# Altium schematic symbol library IC-MEMORY.SchLib: 15 symbols
Pins are listed as number, name and electrical type; pins without a type are passive.

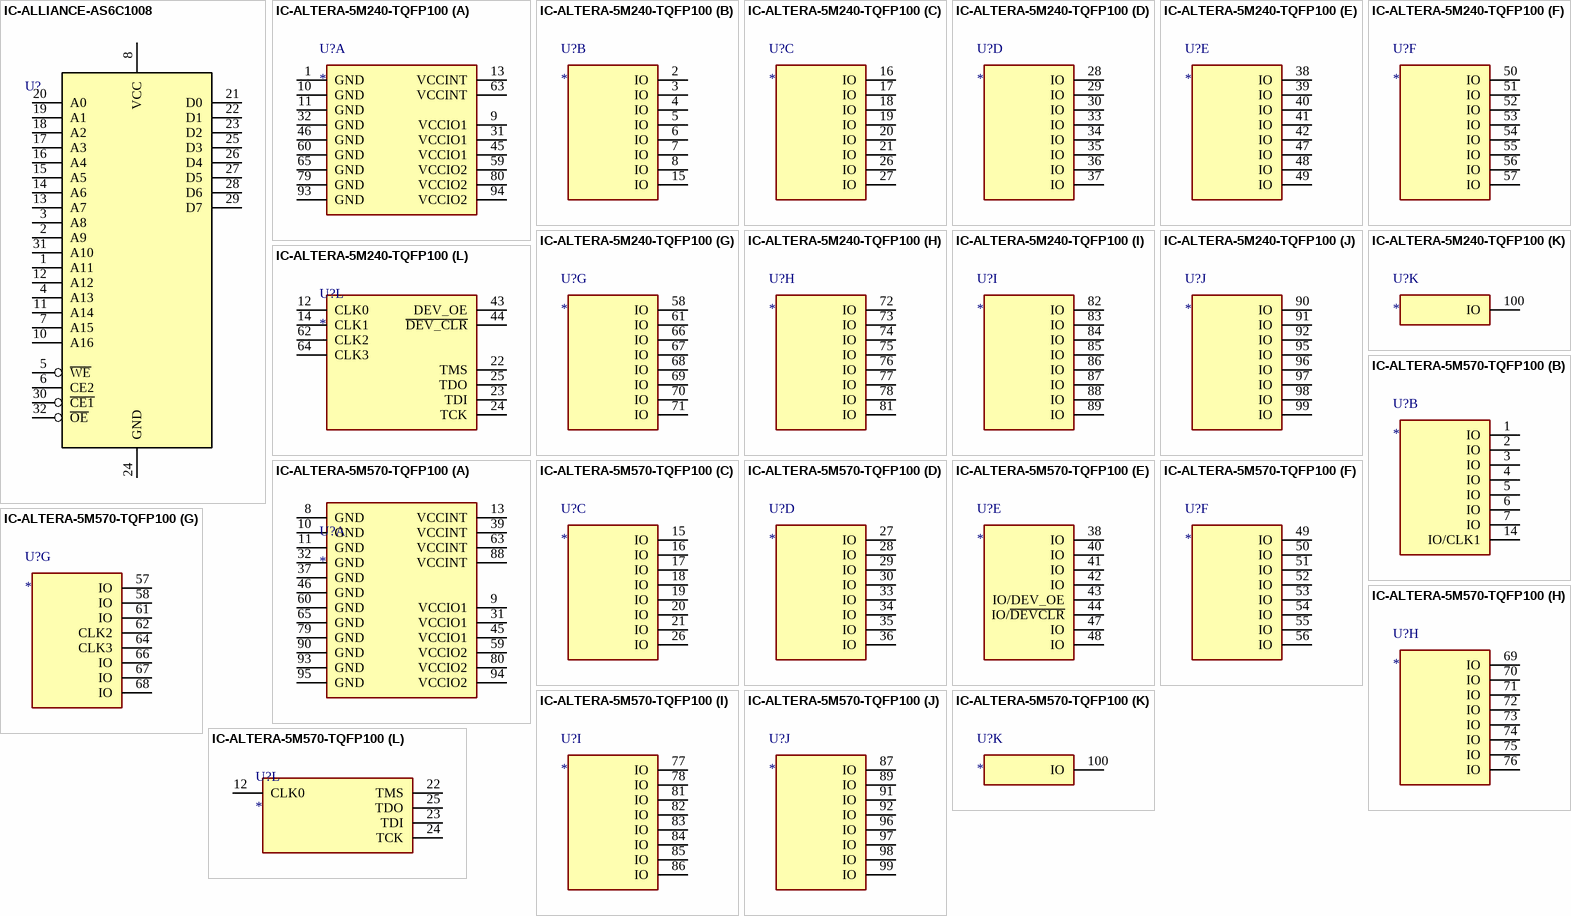
[diagram p0: symbols IC-ALLIANCE-AS6C1008 to IC-ALTERA-5M570-TQFP100]

## IC-ALLIANCE-AS6C1008
designator U?  (value not drawn)
pins: 1 A11, 2 A9, 3 A8, 4 A13, 5 ~{WE} (power), 6 CE2 (power), 7 A15, 8 VCC (power), 10 A16, 11 A14, 12 A12, 13 A7, 14 A6, 15 A5, 16 A4, 17 A3, 18 A2, 19 A1, 20 A0, 21 D0 (power), 22 D1 (power), 23 D2 (power), 24 GND (power), 25 D3 (power), 26 D4 (power), 27 D5 (power), 28 D6 (power), 29 D7 (power), 30 ~{CE1} (power), 31 A10, 32 ~{OE} (power)

## IC-ALTERA-5M240-TQFP100
designator U?
IC,LOGIC,CPLD,ALTERA,5M240-TQFP100; Manufacturer 1: Intel/Altera; Manufacturer Part Number 1: 5M240ZT100C5N; LCSC: C192889
footprint QFP50P1600X1600X160-100N (QFP50P1600X1600X160 100N)
part A pins: 1 GND, 9 VCCIO1, 10 GND, 11 GND, 13 VCCINT, 31 VCCIO1, 32 GND, 45 VCCIO1, 46 GND, 59 VCCIO2, 60 GND, 63 VCCINT, 65 GND, 79 GND, 80 VCCIO2, 93 GND, 94 VCCIO2
part B pins: 2 IO, 3 IO, 4 IO, 5 IO, 6 IO, 7 IO, 8 IO, 15 IO
part C pins: 16 IO, 17 IO, 18 IO, 19 IO, 20 IO, 21 IO, 26 IO, 27 IO
part D pins: 28 IO, 29 IO, 30 IO, 33 IO, 34 IO, 35 IO, 36 IO, 37 IO
part E pins: 38 IO, 39 IO, 40 IO, 41 IO, 42 IO, 47 IO, 48 IO, 49 IO
part F pins: 50 IO, 51 IO, 52 IO, 53 IO, 54 IO, 55 IO, 56 IO, 57 IO
part G pins: 58 IO, 61 IO, 66 IO, 67 IO, 68 IO, 69 IO, 70 IO, 71 IO
part H pins: 72 IO, 73 IO, 74 IO, 75 IO, 76 IO, 77 IO, 78 IO, 81 IO
part I pins: 82 IO, 83 IO, 84 IO, 85 IO, 86 IO, 87 IO, 88 IO, 89 IO
part J pins: 90 IO, 91 IO, 92 IO, 95 IO, 96 IO, 97 IO, 98 IO, 99 IO
part K pins: 100 IO
part L pins: 12 CLK0, 14 CLK1, 22 TMS, 23 TDI, 24 TCK, 25 TDO, 43 DEV_OE, 44 ~{DEV_CLR}, 62 CLK2, 64 CLK3

## IC-ALTERA-5M570-TQFP100
designator U?
IC,LOGIC,CPLD,ALTERA,5M570-TQFP100; Manufacturer 1: INTEL/ALTERA; Manufacturer Part Number 1: 5M570ZT100I5N; LCSC: C1521119
footprint QFP50P1600X1600X160-100N (QFP50P1600X1600X160 100N)
part A pins: 8 GND, 9 VCCIO1, 10 GND, 11 GND, 13 VCCINT, 31 VCCIO1, 32 GND, 37 GND, 39 VCCINT, 45 VCCIO1, 46 GND, 59 VCCIO2, 60 GND, 63 VCCINT, 65 GND, 79 GND, 80 VCCIO2, 88 VCCINT, 90 GND, 93 GND, 94 VCCIO2, 95 GND
part B pins: 1 IO, 2 IO, 3 IO, 4 IO, 5 IO, 6 IO, 7 IO, 14 IO/CLK1
part C pins: 15 IO, 16 IO, 17 IO, 18 IO, 19 IO, 20 IO, 21 IO, 26 IO
part D pins: 27 IO, 28 IO, 29 IO, 30 IO, 33 IO, 34 IO, 35 IO, 36 IO
part E pins: 38 IO, 40 IO, 41 IO, 42 IO, 43 IO/DEV_OE, 44 IO/~{DEVCLR}, 47 IO, 48 IO
part F pins: 49 IO, 50 IO, 51 IO, 52 IO, 53 IO, 54 IO, 55 IO, 56 IO
part G pins: 57 IO, 58 IO, 61 IO, 62 CLK2, 64 CLK3, 66 IO, 67 IO, 68 IO
part H pins: 69 IO, 70 IO, 71 IO, 72 IO, 73 IO, 74 IO, 75 IO, 76 IO
part I pins: 77 IO, 78 IO, 81 IO, 82 IO, 83 IO, 84 IO, 85 IO, 86 IO
part J pins: 87 IO, 89 IO, 91 IO, 92 IO, 96 IO, 97 IO, 98 IO, 99 IO
part K pins: 100 IO
part L pins: 12 CLK0, 22 TMS, 23 TDI, 24 TCK, 25 TDO

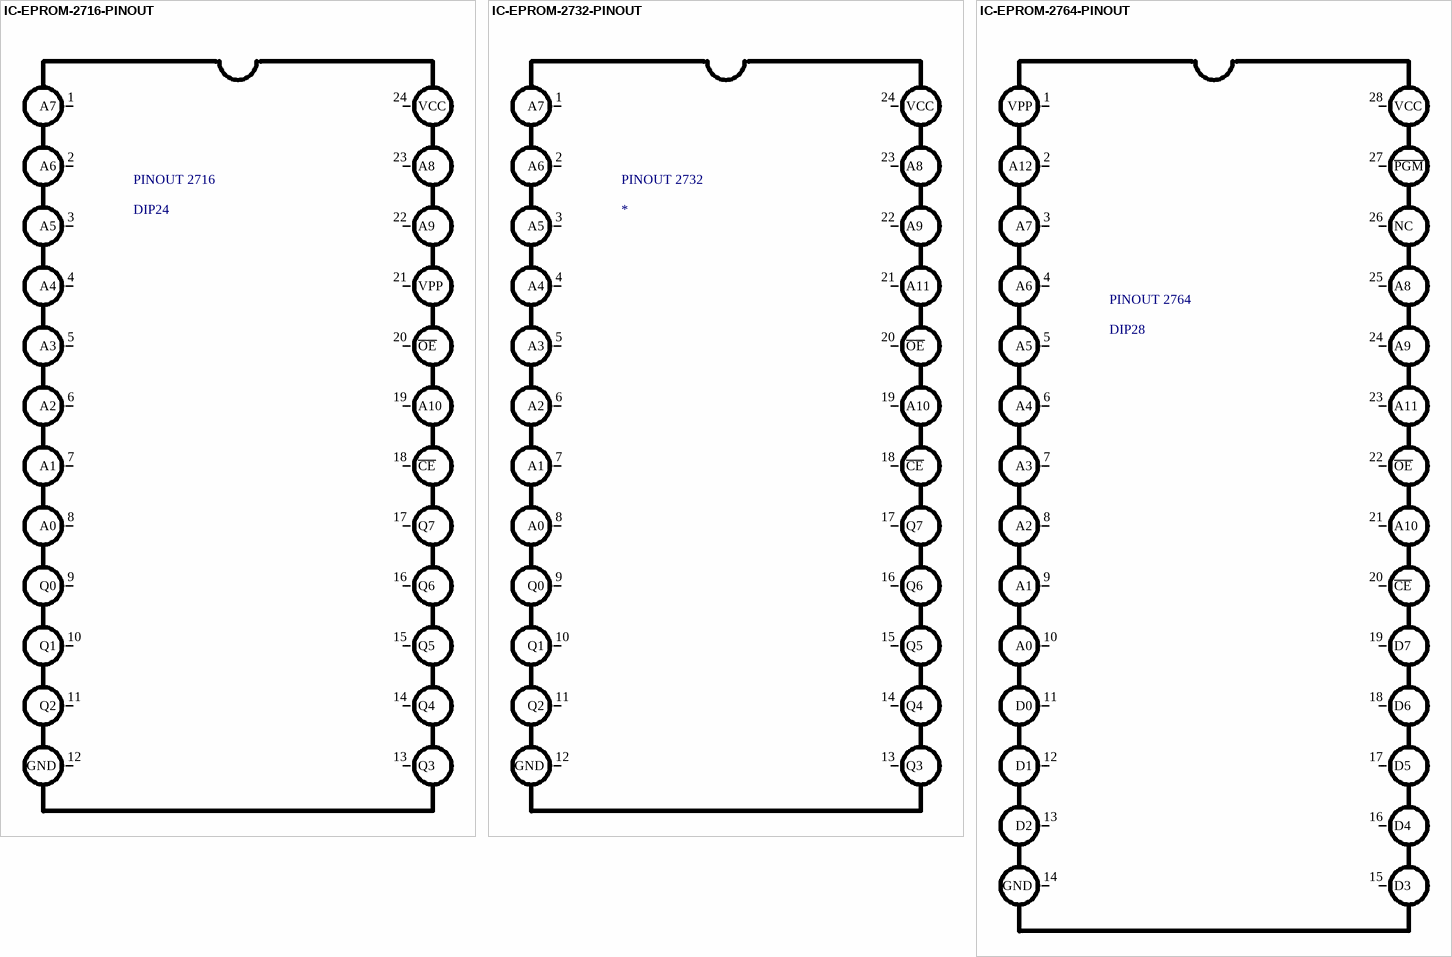
[diagram p1: symbols IC-EPROM-2716-PINOUT to IC-EPROM-2764-PINOUT]

## IC-EPROM-2716-PINOUT
designator PINOUT 2716, comment DIP24
CONN,DIP24,MALE PINHEADER,TURNED PIN,GOLD; Manufacturer 1: CNCTECH; Manufacturer Part Number 1: 220-1-24-006; DIGIKEY: 1175-1524-5-ND
footprint DIL24-PLUG
pins: 1 A7, 2 A6, 3 A5, 4 A4, 5 A3, 6 A2, 7 A1, 8 A0, 9 Q0, 10 Q1, 11 Q2, 12 GND, 13 Q3, 14 Q4, 15 Q5, 16 Q6, 17 Q7, 18 ~{CE}, 19 A10, 20 ~{OE}, 21 VPP, 22 A9, 23 A8, 24 VCC

## IC-EPROM-2732-PINOUT
designator PINOUT 2732
pins: 1 A7, 2 A6, 3 A5, 4 A4, 5 A3, 6 A2, 7 A1, 8 A0, 9 Q0, 10 Q1, 11 Q2, 12 GND, 13 Q3, 14 Q4, 15 Q5, 16 Q6, 17 Q7, 18 ~{CE}, 19 A10, 20 ~{OE}, 21 A11, 22 A9, 23 A8, 24 VCC

## IC-EPROM-2764-PINOUT
designator PINOUT 2764, comment DIP28
CONN,DIP28,MALE PINHEADER,TURNED PIN,GOLD; Manufacturer 1: CNC TECH; Manufacturer Part Number 1: 220-1-28-006; DIGIKEY: 1175-1525-5-ND
pins: 1 VPP, 2 A12, 3 A7, 4 A6, 5 A5, 6 A4, 7 A3, 8 A2, 9 A1, 10 A0, 11 D0, 12 D1, 13 D2, 14 GND, 15 D3, 16 D4, 17 D5, 18 D6, 19 D7, 20 ~{CE}, 21 A10, 22 ~{OE}, 23 A11, 24 A9, 25 A8, 26 NC, 27 ~{PGM}, 28 VCC

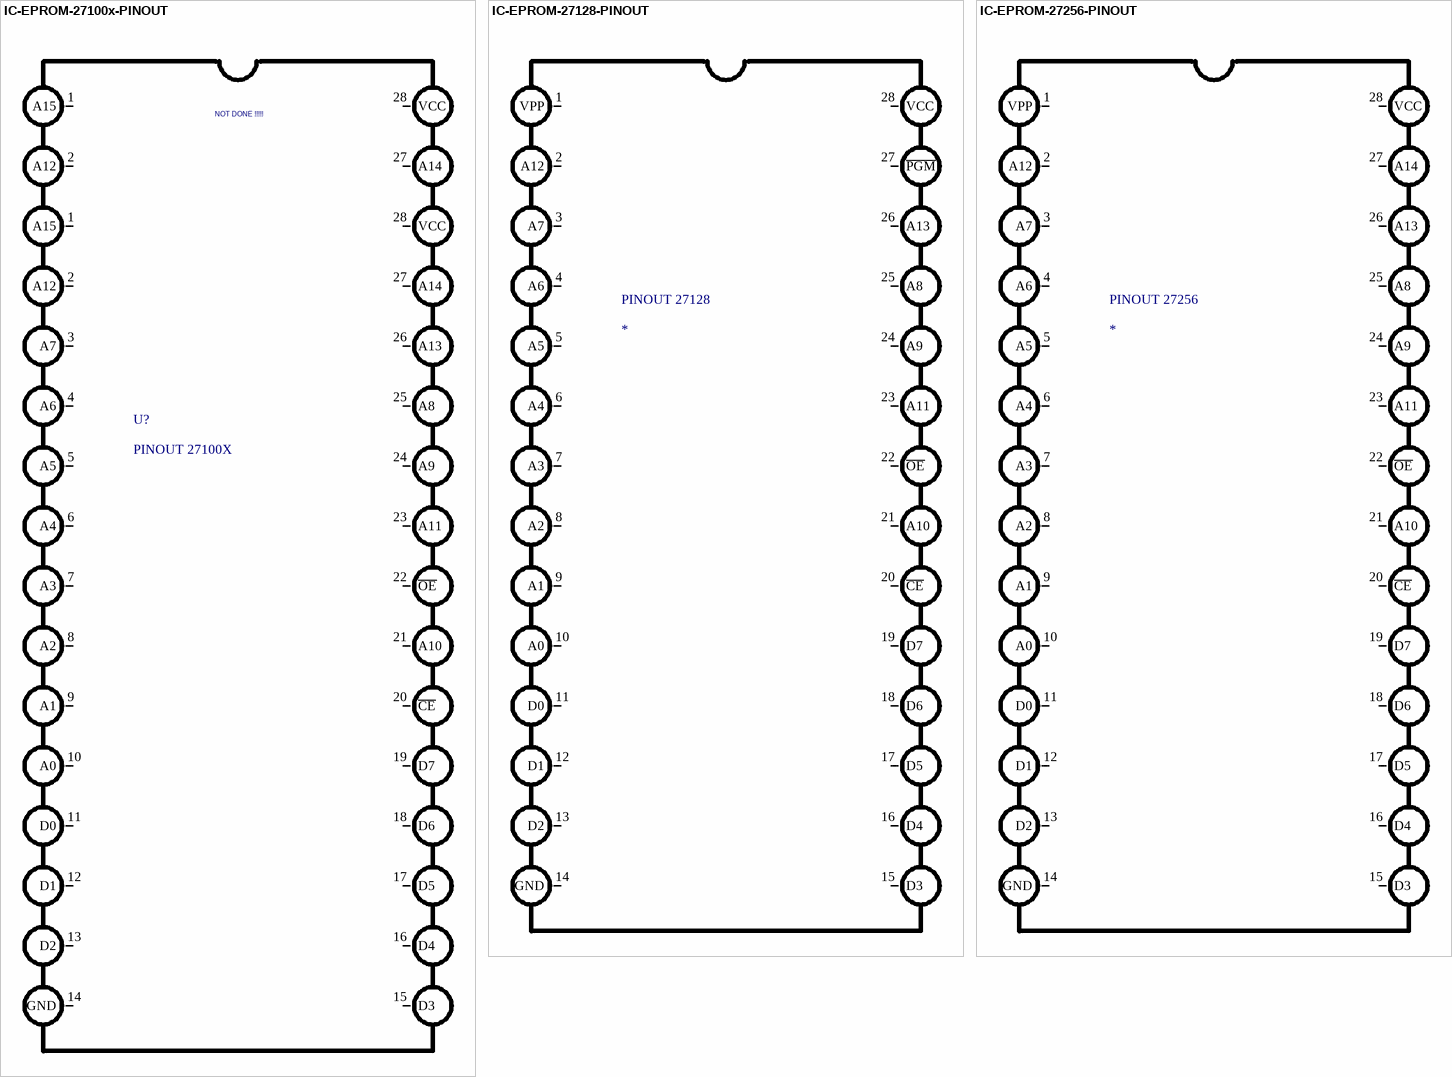
[diagram p2: symbols IC-EPROM-27100x-PINOUT to IC-EPROM-27256-PINOUT]

## IC-EPROM-27100x-PINOUT
designator U?, comment PINOUT 27100X
pins: 1 A15, 1 A15, 2 A12, 2 A12, 3 A7, 4 A6, 5 A5, 6 A4, 7 A3, 8 A2, 9 A1, 10 A0, 11 D0, 12 D1, 13 D2, 14 GND, 15 D3, 16 D4, 17 D5, 18 D6, 19 D7, 20 ~{CE}, 21 A10, 22 ~{OE}, 23 A11, 24 A9, 25 A8, 26 A13, 27 A14, 27 A14, 28 VCC, 28 VCC
text: NOT DONE !!!!!

## IC-EPROM-27128-PINOUT
designator PINOUT 27128
pins: 1 VPP, 2 A12, 3 A7, 4 A6, 5 A5, 6 A4, 7 A3, 8 A2, 9 A1, 10 A0, 11 D0, 12 D1, 13 D2, 14 GND, 15 D3, 16 D4, 17 D5, 18 D6, 19 D7, 20 ~{CE}, 21 A10, 22 ~{OE}, 23 A11, 24 A9, 25 A8, 26 A13, 27 ~{PGM}, 28 VCC

## IC-EPROM-27256-PINOUT
designator PINOUT 27256
pins: 1 VPP, 2 A12, 3 A7, 4 A6, 5 A5, 6 A4, 7 A3, 8 A2, 9 A1, 10 A0, 11 D0, 12 D1, 13 D2, 14 GND, 15 D3, 16 D4, 17 D5, 18 D6, 19 D7, 20 ~{CE}, 21 A10, 22 ~{OE}, 23 A11, 24 A9, 25 A8, 26 A13, 27 A14, 28 VCC

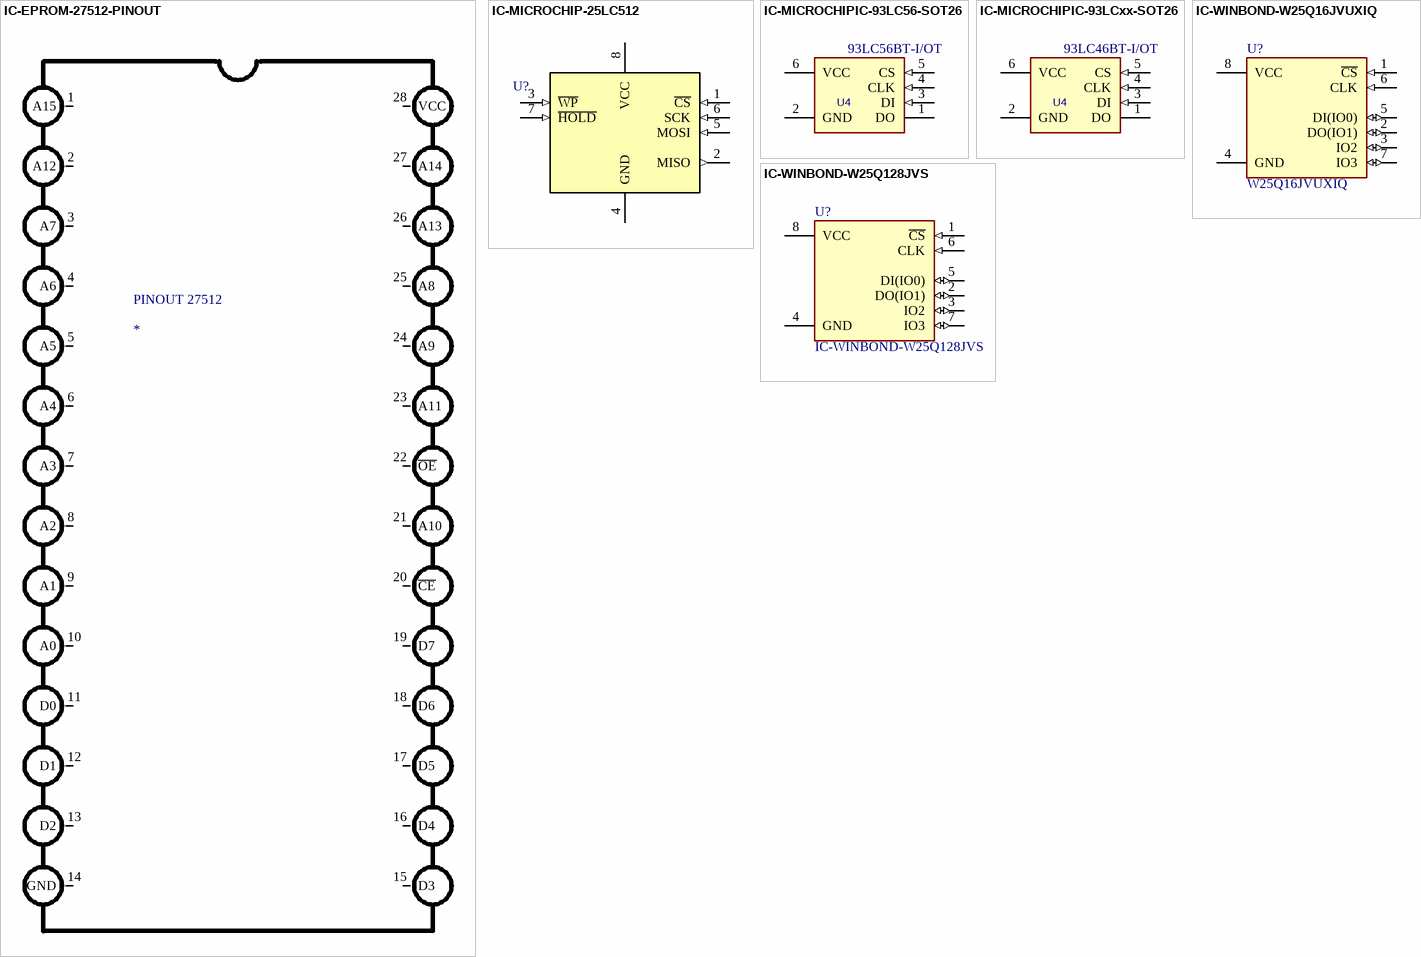
[diagram p3: symbols IC-EPROM-27512-PINOUT to IC-WINBOND-W25Q128JVS]

## IC-EPROM-27512-PINOUT
designator PINOUT 27512
pins: 1 A15, 2 A12, 3 A7, 4 A6, 5 A5, 6 A4, 7 A3, 8 A2, 9 A1, 10 A0, 11 D0, 12 D1, 13 D2, 14 GND, 15 D3, 16 D4, 17 D5, 18 D6, 19 D7, 20 ~{CE}, 21 A10, 22 ~{OE}, 23 A11, 24 A9, 25 A8, 26 A13, 27 A14, 28 VCC

## IC-MICROCHIP-25LC512
designator U?  (value not drawn)
footprint SO127P600-8N (SO8)
pins: 1 ~{CS} (in), 2 MISO (out), 3 ~{WP} (in), 4 GND (power), 5 MOSI (in), 6 SCK (in), 7 ~{HOLD} (in), 8 VCC (power)

## IC-MICROCHIPIC-93LC56-SOT26
designator U4, comment 93LC56BT-I/OT
IC,EEPROM,2KBIT,MICROWIRE,MICROCHIP,93LC56BT-I/OT; LCSC: C190271; Manufacturer 1: MICROCHIP; Manufacturer Part Number 1: 93LC56BT-I/OT
footprint SOT23-6 (SOT23 PACKAGE, 6 PIN (SOT26))
pins: 1 DO (hiz), 2 GND (power), 3 DI (in), 4 CLK (in), 5 CS (in), 6 VCC (power)

## IC-MICROCHIPIC-93LCxx-SOT26
designator U4, comment 93LC46BT-I/OT
P/N: 93LC56BT-I/OT; LCSC: C190271
pins: 1 DO (hiz), 2 GND (power), 3 DI (in), 4 CLK (in), 5 CS (in), 6 VCC (power)

## IC-WINBOND-W25Q16JVUXIQ
designator U?, comment W25Q16JVUXIQ
IC,FLASH,16Mbit, USON; Manufacturer 1: WINBOND; LCSC: C2843335; Manufacturer Part Number 1: W25Q16JVUXIQ
footprint SON50P300X60_HS-9N (SON, 8-Leads, Body 2.00x3.00mm, Pitch 0.50mm, Thermal Pad 1.60x0.20mm, IPC Medium Density)
pins: 1 ~{CS} (in), 2 DO(IO1) (io), 3 IO2 (io), 4 GND (power), 5 DI(IO0) (io), 6 CLK (in), 7 IO3 (io), 8 VCC (power)

## IC-WINBOND-W25Q128JVS
designator U?
IC,FLASH,128MBIT,USON
footprint SON50P300X60_HS-9N (SON, 8-Leads, Body 2.00x3.00mm, Pitch 0.50mm, Thermal Pad 1.60x0.20mm, IPC Medium Density)
pins: 1 ~{CS} (in), 2 DO(IO1) (io), 3 IO2 (io), 4 GND (power), 5 DI(IO0) (io), 6 CLK (in), 7 IO3 (io), 8 VCC (power)